# Altium footprint library Microcontrollers.PcbLib: 4 footprints
Each footprint in its own frame and in the unit in brackets; x right, y up, seen from the top. Pads: shape width x height; smd on the part's side, far side on the other; paste and mask are expansions set on the pad; w line width, h text height; cw(c..) or ccw(c..) is an arc to the next point about the centre after c.
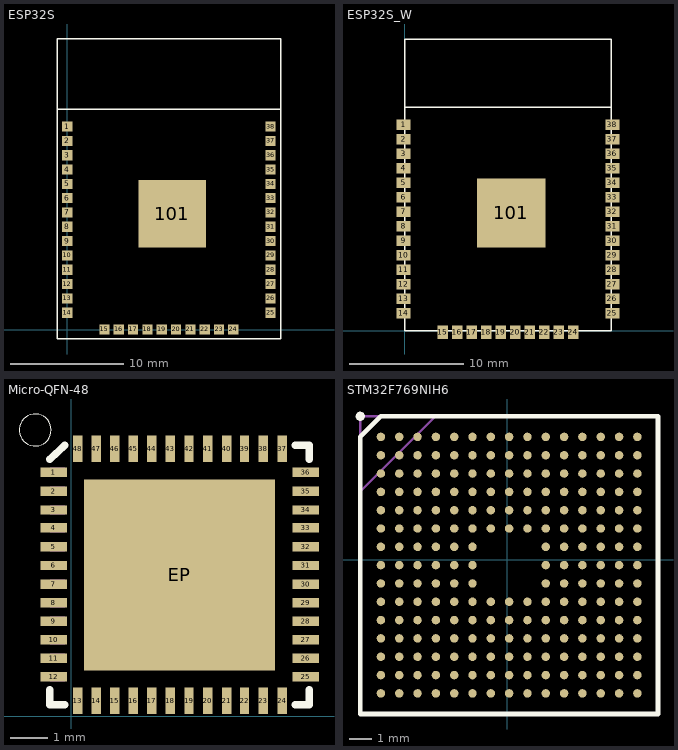
[diagram p0: the footprints below, top view; thin cyan lines are the x and y axes]

## ESP32S [mm] "ESP32S-Module"
height 2.8
pads (39):
  rect 0.9x0.9 smd: 1(0,18.034) 2(0,16.764) 3(0,15.494) 4(0,14.224) 5(0,12.954) 6(0,11.684) 7(0,10.414) 8(0,9.144) 9(0,7.874) 10(0,6.604) 11(0,5.334) 12(0,4.064) 13(0,2.794) 14(0,1.524) 15(3.3,0.034) 16(4.57,0.034) 17(5.84,0.034) 18(7.11,0.034) 19(8.38,0.034) 20(9.65,0.034) 21(10.92,0.034) 22(12.19,0.034) 23(13.46,0.034) 24(14.73,0.034) 25(18.034,1.524) 26(18.034,2.794) 27(18.034,4.064) 28(18.034,5.334) 29(18.034,6.604) 30(18.034,7.874) 31(18.034,9.144) 32(18.034,10.414) 33(18.034,11.684) 34(18.034,12.954) 35(18.034,14.224) 36(18.034,15.494) 37(18.034,16.764) 38(18.034,18.034)
  rect 6x6 smd: 101(9.3,10.3)
Top Overlay:
  lines w0.127: -0.87,19.558 18.94,19.558 ; -0.89,-0.81 -0.89,25.8 18.92,25.8 18.92,-0.81 -0.89,-0.81
3D body: height 0.8, standoff 0, extent 0,0 18.034,25.527
3D body: height 2, standoff 0.8, extent 0.635,0.635 17.526,19.558

## ESP32S_W [mm] "Esp32S Module wide for hand soldering"
pads (39):
  rect 1.2x0.9 smd: 1(-0.127,18.034) 2(-0.127,16.764) 3(-0.127,15.494) 4(-0.127,14.224) 5(-0.127,12.954) 6(-0.127,11.684) 7(-0.127,10.414) 8(-0.127,9.144) 9(-0.127,7.874) 10(-0.127,6.604) 11(-0.127,5.334) 12(-0.127,4.064) 13(-0.127,2.794) 14(-0.127,1.524) 25(18.161,1.524) 26(18.161,2.794) 27(18.161,4.064) 28(18.161,5.334) 29(18.161,6.604) 30(18.161,7.874) 31(18.161,9.144) 32(18.161,10.414) 33(18.161,11.684) 34(18.161,12.954) 35(18.161,14.224) 36(18.161,15.494) 37(18.161,16.764) 38(18.161,18.034)
  rect 0.9x1.2 smd: 15(3.302,-0.127) 16(4.57,-0.127) 17(5.84,-0.127) 18(7.11,-0.127) 19(8.38,-0.127) 20(9.65,-0.127) 21(10.92,-0.127) 22(12.19,-0.127) 23(13.46,-0.127) 24(14.73,-0.127)
  rect 6x6 smd: 101(9.3,10.3)
Top Overlay:
  lines w0.127: 0,19.558 18.034,19.558 ; 0,0 0,25.527 18.034,25.527 18.034,0 0,0
3D body: height 0.8, standoff 0, extent 0,0 18.034,25.527
3D body: height 2, standoff 0.8, extent 0.635,0.635 17.526,19.558

## Micro-QFN-48 [mil] "QFN-48 Package"
pads (49):
  rect 28x10 smd: 1(-18.86,259) 2(-18.86,239) 3(-18.86,219) 4(-18.86,200) 5(-18.86,180) 6(-18.86,160) 7(-18.86,140.16) 8(-18.86,120.47) 9(-18.86,100.79) 10(-18.86,81.1) 11(-18.86,61.42) 12(-18.86,41.73) 25(249,41.73) 26(249,61.42) 27(249,81.1) 28(249,100.79) 29(249,120.47) 30(249,140.16) 31(249,160) 32(249,180) 33(249,200) 34(249,219) 35(249,239) 36(249,259)
  rect 10x28 smd: 13(6.73,16.14) 14(26.42,16.14) 15(46.1,16.14) 16(65.79,16.14) 17(85.47,16.14) 18(105.16,16.14) 19(125,16.14) 20(145,16.14) 21(165,16.14) 22(184,16.14) 23(204,16.14) 24(224,16.14) 37(224,284) 38(204,284) 39(184,284) 40(165,284) 41(145,284) 42(125,284) 43(105.16,284) 44(85.47,284) 45(65.79,284) 46(46.1,284) 47(26.42,284) 48(6.73,284)
  rect 203x203 smd: EP(115,150)
Top Overlay:
  circle w0: c-38.54,304 r17
  lines w8: -22.8,27.95 -22.8,12.2 -7.05,12.2 ; -22.8,273 -7.05,288 ; 238,12.2 253,12.2 253,27.95 ; 238,288 253,288 253,273
Mechanical 16:
  rectangle: -22.8,155 -7.05,165
  rectangle: -22.8,175 -7.05,185
  rectangle: -22.8,195 -7.05,205
  rectangle: -22.8,214 -7.05,224
  rectangle: -22.8,234 -7.05,244
  rectangle: -22.8,254 -7.05,264
  rectangle: -22.8,135.24 -7.05,145.08
  rectangle: -22.8,115.55 -7.05,125.39
  rectangle: -22.8,95.87 -7.05,105.71
  rectangle: -22.8,76.18 -7.05,86.02
  rectangle: -22.8,56.5 -7.05,66.34
  rectangle: -22.8,36.81 -7.05,46.65
3D body "ATSAMD21G18A_QFN.stp": height 30.71, standoff -0.79, extent -22.95,12.2 253.43,288.57

## STM32F769NIH6 [mm] "ARM Microcontrollers Cortex-M7"
pads (216):
  round 0.37 smd: A1(-5.517,5.36) A2(-4.717,5.36) A3(-3.917,5.36) A4(-3.117,5.36) A5(-2.317,5.36) A6(-1.517,5.36) A7(-0.717,5.36) A8(0.083,5.36) A9(0.883,5.36) A10(1.683,5.36) A11(2.483,5.36) A12(3.283,5.36) A13(4.083,5.36) A14(4.883,5.36) A15(5.683,5.36) B1(-5.517,4.56) B2(-4.717,4.56) B3(-3.917,4.56) B4(-3.117,4.56) B5(-2.317,4.56) B6(-1.517,4.56) B7(-0.717,4.56) B8(0.083,4.56) B9(0.883,4.56) B10(1.683,4.56) B11(2.483,4.56) B12(3.283,4.56) B13(4.083,4.56) B14(4.883,4.56) B15(5.683,4.56) C1(-5.517,3.76) C2(-4.717,3.76) C3(-3.917,3.76) C4(-3.117,3.76) C5(-2.317,3.76) C6(-1.517,3.76) C7(-0.717,3.76) C8(0.083,3.76) C9(0.883,3.76) C10(1.683,3.76) C11(2.483,3.76) C12(3.283,3.76) C13(4.083,3.76) C14(4.883,3.76) C15(5.683,3.76) D1(-5.517,2.96) D2(-4.717,2.96) D3(-3.917,2.96) D4(-3.117,2.96) D5(-2.317,2.96) D6(-1.517,2.96) D7(-0.717,2.96) D8(0.083,2.96) D9(0.883,2.96) D10(1.683,2.96) D11(2.483,2.96) D12(3.283,2.96) D13(4.083,2.96) D14(4.883,2.96) D15(5.683,2.96) E1(-5.517,2.16) E2(-4.717,2.16) E3(-3.917,2.16) E4(-3.117,2.16) E5(-2.317,2.16) E6(-1.517,2.16) E7(-0.717,2.16) E8(0.083,2.16) E9(0.883,2.16) E10(1.683,2.16) E11(2.483,2.16) E12(3.283,2.16) E13(4.083,2.16) E14(4.883,2.16) E15(5.683,2.16) F1(-5.517,1.36) F2(-4.717,1.36) F3(-3.917,1.36) F4(-3.117,1.36) F5(-2.317,1.36) F6(-1.517,1.36) F7(-0.717,1.36) F8(0.083,1.36) F9(0.883,1.36) F10(1.683,1.36) F11(2.483,1.36) F12(3.283,1.36) F13(4.083,1.36) F14(4.883,1.36) F15(5.683,1.36) G1(-5.517,0.56) G2(-4.717,0.56) G3(-3.917,0.56) G4(-3.117,0.56) G5(-2.317,0.56) G6(-1.517,0.56) G10(1.683,0.56) G11(2.483,0.56) G12(3.283,0.56) G13(4.083,0.56) G14(4.883,0.56) G15(5.683,0.56) H1(-5.517,-0.24) H2(-4.717,-0.24) H3(-3.917,-0.24) H4(-3.117,-0.24) H5(-2.317,-0.24) H6(-1.517,-0.24) H10(1.683,-0.24) H11(2.483,-0.24) H12(3.283,-0.24) H13(4.083,-0.24) H14(4.883,-0.24) H15(5.683,-0.24) J1(-5.517,-1.04) J2(-4.717,-1.04) J3(-3.917,-1.04) J4(-3.117,-1.04) J5(-2.317,-1.04) J6(-1.517,-1.04) J10(1.683,-1.04) J11(2.483,-1.04) J12(3.283,-1.04) J13(4.083,-1.04) J14(4.883,-1.04) J15(5.683,-1.04) K1(-5.517,-1.84) K2(-4.717,-1.84) K3(-3.917,-1.84) K4(-3.117,-1.84) K5(-2.317,-1.84) K6(-1.517,-1.84) K7(-0.717,-1.84) K8(0.083,-1.84) K9(0.883,-1.84) K10(1.683,-1.84) K11(2.483,-1.84) K12(3.283,-1.84) K13(4.083,-1.84) K14(4.883,-1.84) K15(5.683,-1.84) L1(-5.517,-2.64) L2(-4.717,-2.64) L3(-3.917,-2.64) L4(-3.117,-2.64) L5(-2.317,-2.64) L6(-1.517,-2.64) L7(-0.717,-2.64) L8(0.083,-2.64) L9(0.883,-2.64) L10(1.683,-2.64) L11(2.483,-2.64) L12(3.283,-2.64) L13(4.083,-2.64) L14(4.883,-2.64) L15(5.683,-2.64) M1(-5.517,-3.44) M2(-4.717,-3.44) M3(-3.917,-3.44) M4(-3.117,-3.44) M5(-2.317,-3.44) M6(-1.517,-3.44) M7(-0.717,-3.44) M8(0.083,-3.44) M9(0.883,-3.44) M10(1.683,-3.44) M11(2.483,-3.44) M12(3.283,-3.44) M13(4.083,-3.44) M14(4.883,-3.44) M15(5.683,-3.44) N1(-5.517,-4.24) N2(-4.717,-4.24) N3(-3.917,-4.24) N4(-3.117,-4.24) N5(-2.317,-4.24) N6(-1.517,-4.24) N7(-0.717,-4.24) N8(0.083,-4.24) N9(0.883,-4.24) N10(1.683,-4.24) N11(2.483,-4.24) N12(3.283,-4.24) N13(4.083,-4.24) N14(4.883,-4.24) N15(5.683,-4.24) P1(-5.517,-5.04) P2(-4.717,-5.04) P3(-3.917,-5.04) P4(-3.117,-5.04) P5(-2.317,-5.04) P6(-1.517,-5.04) P7(-0.717,-5.04) P8(0.083,-5.04) P9(0.883,-5.04) P10(1.683,-5.04) P11(2.483,-5.04) P12(3.283,-5.04) P13(4.083,-5.04) P14(4.883,-5.04) P15(5.683,-5.04) R1(-5.517,-5.84) R2(-4.717,-5.84) R3(-3.917,-5.84) R4(-3.117,-5.84) R5(-2.317,-5.84) R6(-1.517,-5.84) R7(-0.717,-5.84) R8(0.083,-5.84) R9(0.883,-5.84) R10(1.683,-5.84) R11(2.483,-5.84) R12(3.283,-5.84) R13(4.083,-5.84) R14(4.883,-5.84) R15(5.683,-5.84)
Top Overlay:
  circle w0.2: c-6.417,6.26 r0.1
  lines w0.2: -6.417,-6.74 -6.417,5.36 -5.517,6.26 6.583,6.26 6.583,-6.74 -6.417,-6.74
Mechanical 15:
  lines w0.1: -6.417,2.972 -3.129,6.26 ; -6.417,-6.74 -6.417,6.26 6.583,6.26 6.583,-6.74 -6.417,-6.74
3D body "STM32F769NIH6.stp": height 1.1, standoff 0, extent -6.417,-6.74 6.583,6.26